# EAGLE library part MCP3004-I/ST (library RPiAutonomousCar)
IC, 10BIT ADC 4-CH, SMD
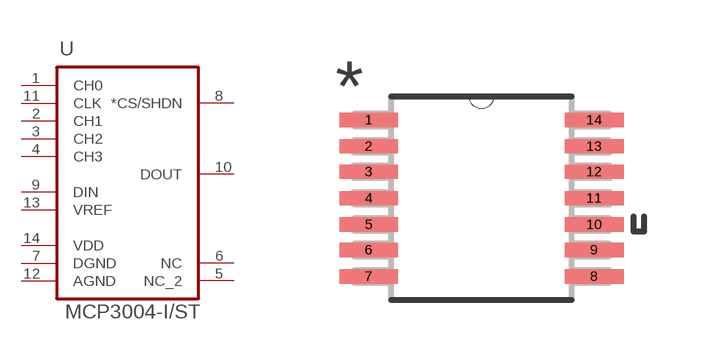
[diagram p8: symbol with the pads of SOP65P640X120-14N; footprint SOP65P640X120-14N]

Designator prefix U

## MCP3004-I/ST (MPN: MCP3004-I/ST; OC_FARNELL: 1523365; OC_NEWARK: 74M3032; PACKAGE: 14TSSOP; SUPPLIER: Microchip)  [SOP65P640X120-14N]
1  CH0  in
2  CH1  in
3  CH2  in
4  CH3  in
5  NC_2  nc
6  NC  nc
7  DGND  pas
8  *CS/SHDN  in
9  DIN  in
10  DOUT  out
11  CLK  in
12  AGND  pas
13  VREF  in
14  VDD  pwr

## Footprint SOP65P640X120-14N (pad centres in mm)
smd 1.473 x 0.356: 1 -2.819,1.956; 2 -2.819,1.295; 3 -2.819,0.66; 4 -2.819,0; 5 -2.819,-0.66; 6 -2.819,-1.295; 7 -2.819,-1.956; 8 2.819,-1.956; 9 2.819,-1.295; 10 2.819,-0.66; 11 2.819,0; 12 2.819,0.66; 13 2.819,1.295; 14 2.819,1.956